# Altium footprint library RocketFPGA.PcbLib: 23 footprints (part 2 of 2)
Each footprint in its own frame and in the unit in brackets; x right, y up, seen from the top. Pads: shape width x height; smd on the part's side, far side on the other; paste and mask are expansions set on the pad; w line width, h text height; cw(c..) or ccw(c..) is an arc to the next point about the centre after c.
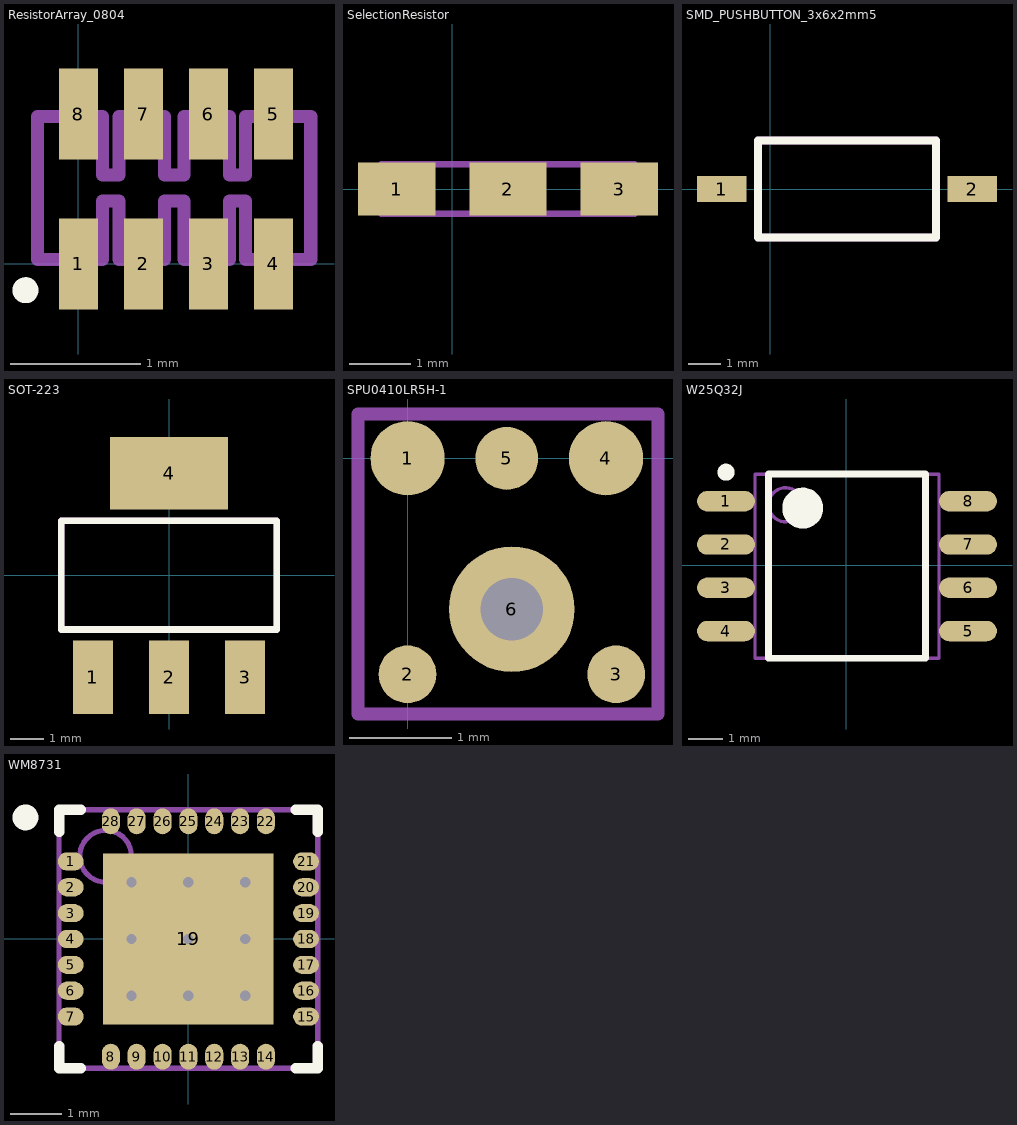
[diagram p1: the footprints below, top view; thin cyan lines are the x and y axes]

## ResistorArray_0804 [mm] "ResistorArray_0804"
height 1
pads (8):
  rect 0.3x0.7 smd: 1(0,0) 2(0.5,0) 3(1,0) 4(1.5,0) 5(1.5,1.15) 6(1,1.15) 7(0.5,1.15) 8(0,1.15)
Top Overlay:
  circle w0.1: c-0.406,-0.203 r0.05
Assembly Top (Mech3):
  lines w0.1: -0.313,0.034 -0.313,1.134 0.187,1.134 0.187,0.684 0.312,0.684 0.312,1.134 0.662,1.134 0.662,0.684 0.812,0.684 0.812,1.134 1.162,1.134 1.162,0.684 1.287,0.684 1.287,1.134 1.787,1.134 1.787,0.034 1.287,0.034 1.287,0.484 1.162,0.484 1.162,0.034 0.812,0.034 0.812,0.484 0.662,0.484 0.662,0.034 0.312,0.034 0.312,0.484 0.187,0.484 0.187,0.034 -0.313,0.034
  text "'.Designator'" at -0.229,1.473 h0.76
3D body: height 0.45, standoff 0, extent -0.305,0.061 1.795,1.161

## SelectionResistor [mm] "3 pin selection resistor 0603"
pads (3):
  rect 1.25x0.85 smd: 1(-0.9,0) 2(0.9,0) 3(2.703,0)
Mechanical 25:
  lines w0.1: -1.15,-0.4 1.15,-0.4 1.15,0.4 -1.15,0.4 -1.15,-0.4 ; 0.653,-0.4 2.953,-0.4 2.953,0.4 0.653,0.4 0.653,-0.4

## SMD_PUSHBUTTON_3x6x2mm5 [mm]
pads (2):
  rect 1.524x0.8 smd: 1(-1.5,0) 2(6.25,0)
Top Overlay:
  lines w0.254: -0.377,0 -0.377,-1.5 ; -0.377,-1.5 -0.377,1.5 5.123,1.5 5.123,-1.5 -0.377,-1.5
Assembly Top (Mech3):
  lines w0.254: -0.377,0 -0.377,-1.5 ; -0.377,-1.5 -0.377,1.5 5.123,1.5 5.123,-1.5 -0.377,-1.5
  text "'.Designator'" at 0.254,-0.66 h1.52
3D body "6x3mm Button.stp": height 2.54, standoff -0.03, extent -1.5,-1.75 6.272,1.831

## SOT-223 [mil]
height 110.24
pads (4):
  rect 48x88 smd: 1(-91,-122) 2(0,-122) 3(91,-122)
  rect 141.73x86.61 smd: 4(0,122.01)
Top Overlay:
  lines w8: -129,-65 -129,65 129,65 129,-65 -129,-65
Assembly Top (Mech3):
  lines w8: -129,-65 -129,65 129,65 129,-65 -129,-65
  text "'.Designator'" at -81,-31 h60
3D body "SW3dPS-SOT-223-1.STEP": height 65.04, standoff 0.08, extent -127.95,-137.8 127.96,137.79

## SPU0410LR5H-1 [mm] "mems microphone"
pads (6):
  round 0.723 smd: 1(0,0) 4(1.932,0)
  round 0.562 smd: 2(0,-2.103) 3(2.031,-2.103)
  round 0.612 smd: 5(0.966,0)
  round 1.224 hole 0.61 paste-909.217 mask+0.102: 6(1.015,-1.469)
Top Paste:
  circle w0.254: c1.015,-1.469 r0.466
Assembly Top (Mech3):
  lines w0.127: -0.483,-2.489 -0.483,0.432 2.438,0.432 2.438,-2.489 -0.457,-2.489
  text "'.Designator'" at -0.305,-1.448 h0.76
3D body "UNK_Knowles_SPU0410HR5H-PB_eec.STEP": height 1.13, standoff 0, extent -0.449,-2.8 2.501,0.96

## W25Q32J [mm]
pads (8):
  oval 1.7x0.6 smd: 1(-3.525,1.88) 2(-3.525,0.61) 3(-3.525,-0.66) 4(-3.525,-1.93) 5(3.575,-1.93) 6(3.575,-0.66) 7(3.575,0.61) 8(3.575,1.88)
Top Overlay:
  circle w0.6: c-1.275,1.675 r0.3
  circle w0.25: c-3.525,2.73 r0.125
  lines w0.2: -2.275,-2.725 2.325,-2.725 2.325,2.675 -2.275,2.675 -2.275,-2.725
Assembly Top (Mech3):
  circle w0.1: c-1.775,1.775 r0.5
  lines w0.1: -2.675,-2.725 2.725,-2.725 2.725,2.675 -2.675,2.675 -2.675,-2.725
  text "'.Designator'" at -2.21,-1.041 h1.52
3D body "User Library-SOIC8_(ATTINY12).step": height 2.29, standoff -0.03, extent -4.145,-2.715 4.247,2.665

## WM8731 [mm] "PQFN, 28-Leads, Body 5.00x5.00mm, Pitch 0.50mm, Thermal Pad 3.30x3.30mm, IPC Medium Density"
height 1
pads (29):
  oval 0.5x0.35 smd: 1(-2.275,1.5) 2(-2.275,1) 3(-2.275,0.5) 4(-2.275,0) 5(-2.275,-0.5) 6(-2.275,-1) 7(-2.275,-1.5) 15(2.275,-1.5) 16(2.275,-1) 17(2.275,-0.5) 18(2.275,0) 19(2.275,0.5) 20(2.275,1) 21(2.275,1.5)
  oval 0.35x0.5 smd: 8(-1.5,-2.275) 9(-1,-2.275) 10(-0.5,-2.275) 11(0,-2.275) 12(0.5,-2.275) 13(1,-2.275) 14(1.5,-2.275) 22(1.5,2.275) 23(1,2.275) 24(0.5,2.275) 25(0,2.275) 26(-0.5,2.275) 27(-1,2.275) 28(-1.5,2.275)
  rect 3.3x3.3 smd: 19(0,0)
via 1.1,-1.1 diameter 0.5 hole 0.2
via 0,-1.1 diameter 0.5 hole 0.2
via -1.1,-1.1 diameter 0.5 hole 0.2
via 1.1,0 diameter 0.5 hole 0.2
via 0,0 diameter 0.5 hole 0.2
via -1.1,0 diameter 0.5 hole 0.2
via 1.1,1.1 diameter 0.5 hole 0.2
via 0,1.1 diameter 0.5 hole 0.2
via -1.1,1.1 diameter 0.5 hole 0.2
Top Overlay:
  circle w0.25: c-3.15,2.35 r0.125
  lines w0.2: -2.5,-2.075 -2.5,-2.5 -2.075,-2.5 ; -2.5,2.075 -2.5,2.5 -2.075,2.5 ; 2.075,-2.5 2.5,-2.5 2.5,-2.075 ; 2.075,2.5 2.5,2.5 2.5,2.075
Assembly Top (Mech3):
  circle w0.1: c-1.6,1.6 r0.5
  lines w0.1: -2.5,-2.5 2.5,-2.5 2.5,2.5 -2.5,2.5 -2.5,-2.5
  text "'.Designator'" at -1.321,-0.66 h1.52
3D body: height 1, standoff 0, extent -2.5,-2.5 2.5,2.5